# EAGLE library part LTC2622 (library IC)
Linear Technology LTC2622(12, 02) Dual 16-/14-/12-Bit Rail-to-Rail DACs in 8-Lead MSOP
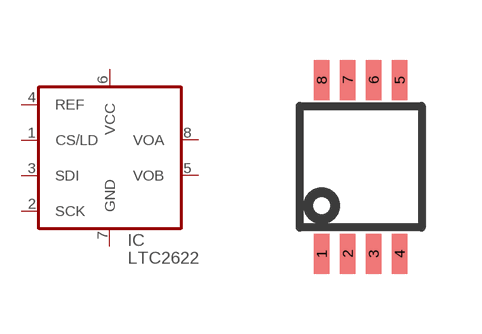
[diagram p132: symbol with the pads of MSOP-8; footprint MSOP-8]

Designator prefix IC

## LTC2622  [MSOP-8]
1  CS/LD
2  SCK
3  SDI
4  REF
5  VOB
6  VCC  pwr
7  GND  pwr
8  VOA

## Footprint MSOP-8 (pad centres in mm)
Linear Tech MSOP-8, National Semiconductor MM, On-Semi Micro8 (DM)
smd 0.38 x 1: 1 -0.975,-2.175; 2 -0.325,-2.175; 3 0.325,-2.175; 4 0.975,-2.175; 5 0.975,2.175; 6 0.325,2.175; 7 -0.325,2.175; 8 -0.975,2.175